# Altium footprint library PcbLib1.PcbLib: 10 footprints
Each footprint in its own frame and in the unit in brackets; x right, y up, seen from the top. Pads: shape width x height; smd on the part's side, far side on the other; paste and mask are expansions set on the pad; w line width, h text height; cw(c..) or ccw(c..) is an arc to the next point about the centre after c.
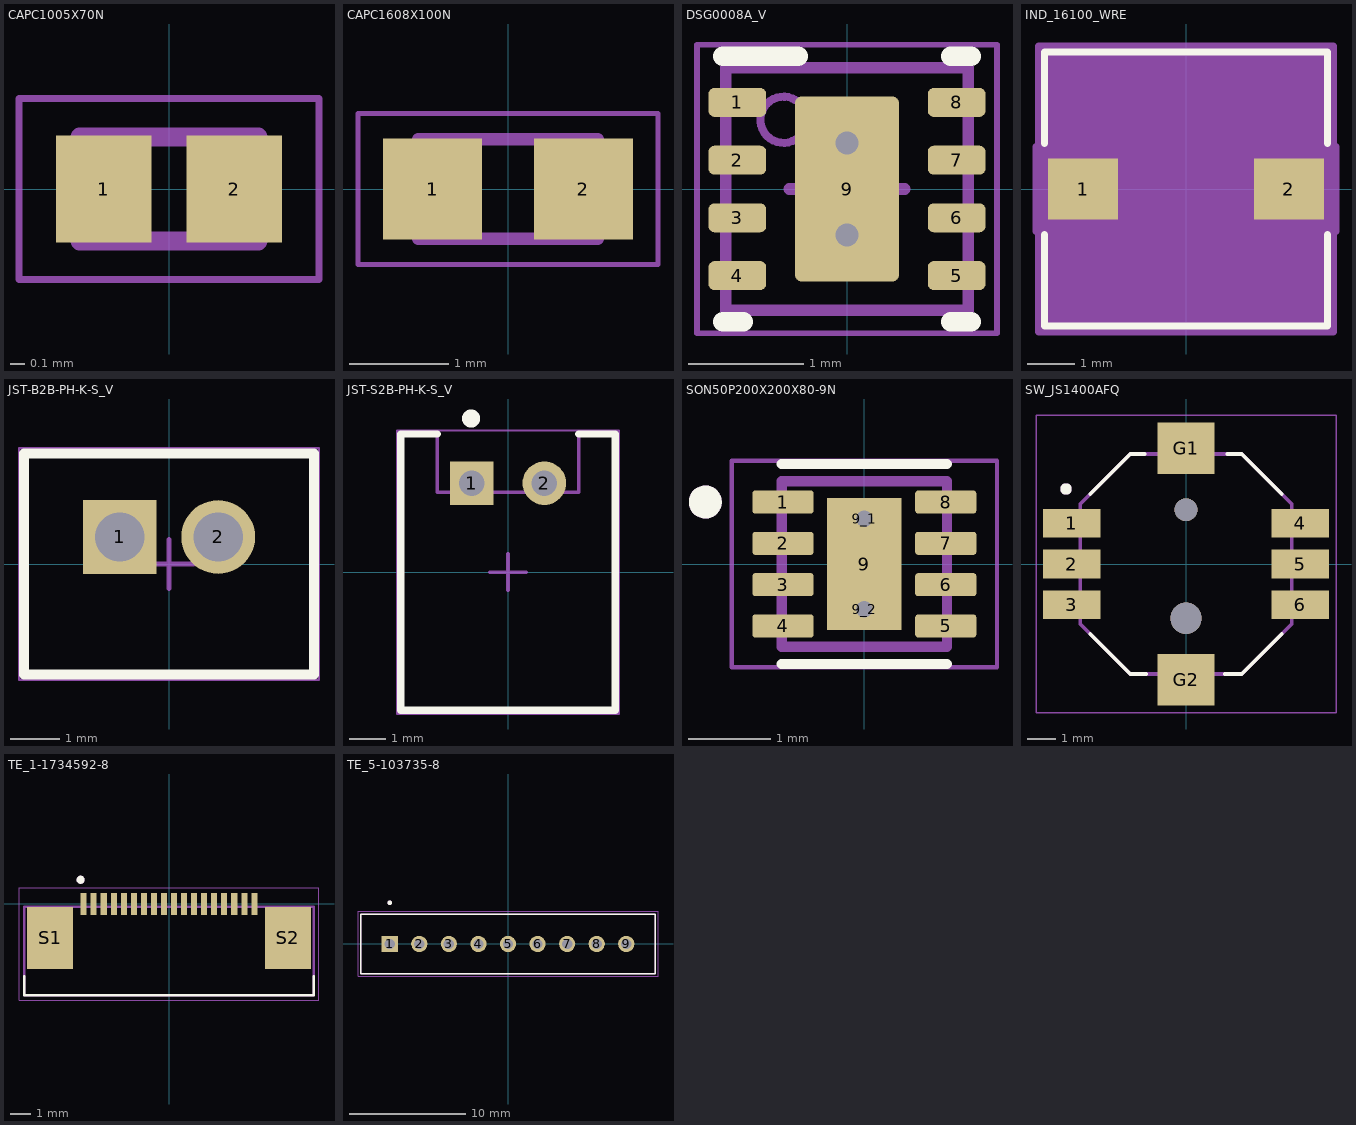
[diagram p0: the footprints below, top view; thin cyan lines are the x and y axes]

## CAPC1005X70N [mm]
pads (2):
  rect 0.64x0.72 smd: 1(-0.439,0) 2(0.439,0)
Mechanical 13:
  lines w0.127: -0.6,-0.35 0.6,-0.35 0.6,0.35 -0.6,0.35 -0.6,-0.35
Mechanical 15:
  lines w0.05: -1.008,-0.608 1.008,-0.608 1.008,0.608 -1.008,0.608 -1.008,-0.608
3D body "step_temp.STEP": height 0.7, standoff 0, extent -0.5,-0.25 0.5,0.25

## CAPC1608X100N [mm]
pads (2):
  rect 1x1.02 smd: 1(-0.759,0) 2(0.759,0)
Mechanical 13:
  lines w0.127: -0.9,-0.5 0.9,-0.5 0.9,0.5 -0.9,0.5 -0.9,-0.5
Mechanical 15:
  lines w0.05: -1.508,-0.758 1.508,-0.758 1.508,0.758 -1.508,0.758 -1.508,-0.758

## DSG0008A_V [mm] "SON, 8-Leads, Body 2x2mm, Pitch 0.5mm, Thermal Pad 1.6x0.9mm, TI Recommended"
height 0.8
pads (9):
  rrect40% 0.5x0.25 smd: 1(-0.95,0.75) 2(-0.95,0.25) 3(-0.95,-0.25) 4(-0.95,-0.75) 5(0.95,-0.75) 6(0.95,-0.25) 7(0.95,0.25) 8(0.95,0.75)
  rrect11% 0.9x1.6 smd paste-0.45: 9(0,0)
via 0,0.4 diameter 0.5 hole 0.2
via 0,-0.4 diameter 0.5 hole 0.2
Top Overlay:
  lines w0.17: -1.075,-1.15 -0.9,-1.15 ; -1.075,1.15 -0.425,1.15 ; 0.9,-1.15 1.075,-1.15 ; 0.9,1.15 1.075,1.15
Top Paste:
  rectangle: -0.427,-0.733 0.427,0.733
Mechanical 1:
  text ".Designator" at -0.925,-0.25 h0.51
Mechanical 13:
  circle w0.07: c-0.55,0.6 r0.2
  lines w0.1: -1.05,-1.05 -1.05,1.05 1.05,1.05 1.05,-1.05 -1.05,-1.05
Mechanical 15:
  lines w0.05: -1.3,-1.25 1.3,-1.25 1.3,1.25 -1.3,1.25 -1.3,-1.25
  lines w0.1: -0.5,0 0.5,0 ; 0,-0.5 0,0.5
3D body: height 0.8, standoff 0, extent -1.05,-1.05 1.05,1.05
3D body: height 0.8, standoff 0.5, extent -0.749,0.401 -0.351,0.799

## IND_16100_WRE [mil]
pads (2):
  rect 59x51 smd paste+0 mask+0: 1(-86.5,0) 2(86.5,0)
Top Overlay:
  lines w6: -119,-38.25 -119,-115 119,-115 119,-38.25 ; -119,38.25 -119,115 119,115 119,38.25
Mechanical 13:
  lines w1: -114,-110 114,-110 114,110 -114,110 -114,-110
Mechanical 15:
  region: -124,-35.5 -126,-35.5 -126,35.5 -124,35.5 -124,120 124,120 124,35.5 126,35.5 126,-35.5 124,-35.5 124,-120 -124,-120
  lines w6: -126,-35.5 -126,35.5 -124,35.5 -124,120 124,120 124,35.5 126,35.5 126,-35.5 124,-35.5 124,-120 -124,-120 -124,-35.5 -126,-35.5
3D body "IND_16100_WRE.step": height 169.09, standoff -0.12, extent -114.02,-110.12 114.02,110.12

## JST-B2B-PH-K-S_V [mm] "Connector, 2-Leads, Body 5.9x4.5mm, Pitch 2mm"
height 6
pads (2):
  rect 1.5x1.5 hole 1: 1(-1,0.55)
  round 1.5 hole 1: 2(1,0.55)
Top Overlay:
  lines w0.2: -2.95,-2.25 -2.95,2.25 2.95,2.25 2.95,-2.25 -2.95,-2.25
Mechanical 13:
  lines w0.1: -2.95,-2.25 2.95,-2.25 2.95,2.25 -2.95,2.25 -2.95,-2.25
Mechanical 15:
  lines w0.05: -3.05,-2.35 3.05,-2.35 3.05,2.35 -3.05,2.35 -3.05,-2.35
  lines w0.1: -0.5,0 0.5,0 ; 0,-0.5 0,0.5
3D body: height 0, standoff -3.4, extent 0.75,0.301 1.249,0.8
3D body: height 0, standoff -3.4, extent -1.249,0.301 -0.751,0.799
3D body: height 6, standoff 0, extent -2.949,-2.249 2.949,2.249

## JST-S2B-PH-K-S_V [mm] "THD, 2-Leads, Body 7.6x5.9mm, Pitch 2mm"
height 4.8
pads (2):
  rect 1.2x1.2 hole 0.7: 1(-1,2.45)
  round 1.2 hole 0.7: 2(1,2.45)
Top Overlay:
  circle w0.25: c-1.016,4.228 r0.125
  lines w0.2: -1.95,3.8 -2.95,3.8 -2.95,-3.8 2.95,-3.8 2.95,3.8 1.95,3.8
Mechanical 13:
  lines w0.1: -2.95,-3.8 -2.95,3.8 -1.95,3.8 -1.95,3.8 -1.95,2.2 1.95,2.2 1.95,3.8 2.95,3.8 2.95,-3.8 -2.95,-3.8
Mechanical 15:
  lines w0.05: -3.05,-3.9 3.05,-3.9 3.05,3.9 -3.05,3.9 -3.05,-3.9
  lines w0.1: -0.5,0 0.5,0 ; 0,-0.5 0,0.5
3D body "S2B-PH-K-S.STEP": height 4.8, standoff -3.4, extent -2.95,-3.8 2.95,3.8

## SON50P200X200X80-9N [mm]
pads (11):
  rrect25% 0.74x0.28 smd: 1(-0.985,0.75) 2(-0.985,0.25) 3(-0.985,-0.25) 4(-0.985,-0.75) 5(0.985,-0.75) 6(0.985,-0.25) 7(0.985,0.25) 8(0.985,0.75)
  rect 0.9x1.6 smd paste-2: 9(0,0)
  round 0.4 hole 0.2 mask+0: 9_1(0,0.55) 9_2(0,-0.55)
Top Overlay:
  circle w0.2: c-1.925,0.75 r0.1
  lines w0.127: -1,-1.21 1,-1.21 ; -1,1.21 1,1.21
Top Paste:
  region: 0.28,-0.51 -0.28,-0.51 -0.28,0.51 0.28,0.51
Mechanical 13:
  circle w0.2: c-1.925,0.75 r0.1
  lines w0.127: -1,-1 -1,1 1,1 1,-1 -1,-1
Mechanical 15:
  lines w0.05: -1.605,-1.25 -1.605,1.25 1.605,1.25 1.605,-1.25 -1.605,-1.25
3D body "step_temp.STEP": height 0.8, standoff 0, extent -1,-1 1,1

## SW_JS1400AFQ [mm]
height 4.8
pads (10):
  rect 2x1 smd: 1(-4,1.425) 2(-4,0) 3(-4,-1.425) 4(4,1.425) 5(4,0) 6(4,-1.425)
  rect 2x1.8 smd: G1(0,4.05) G2(0,-4.05)
  round 1.1 hole 1.1 unplated: ""(0,-1.9)
  round 0.8 hole 0.8 unplated: ""(0,1.9)
Top Overlay:
  circle w0.2: c-4.2,2.625 r0.1
  lines w0.127: -3.35,-2.45 -1.95,-3.85 -1.4,-3.85 ; -3.35,2.45 -1.95,3.85 -1.45,3.85 ; 1.35,-3.85 1.95,-3.85 3.35,-2.45 ; 1.45,3.85 1.95,3.85 3.35,2.45
Mechanical 13:
  circle w0.2: c-4.2,2.625 r0.1
  lines w0.127: -3.7,-2.1 -3.7,2.1 -1.95,3.85 1.95,3.85 3.7,2.1 3.7,-2.1 1.95,-3.85 -1.95,-3.85 -3.7,-2.1
Mechanical 15:
  lines w0.05: -5.25,-5.2 5.25,-5.2 5.25,5.2 -5.25,5.2 -5.25,-5.2

## TE_1-1734592-8 [mm]
pads (20):
  rect 0.3x1.1 smd: 1(-4.25,0) 2(-3.75,0) 3(-3.25,0) 4(-2.75,0) 5(-2.25,0) 6(-1.75,0) 7(-1.25,0) 8(-0.75,0) 9(-0.25,0) 10(0.25,0) 11(0.75,0) 12(1.25,0) 13(1.75,0) 14(2.25,0) 15(2.75,0) 16(3.25,0) 17(3.75,0) 18(4.25,0)
  rect 2.3x3.1 smd: S1(-5.92,-1.7) S2(5.92,-1.7)
Top Overlay:
  circle w0.2: c-4.4,1.2 r0.1
  lines w0.127: -7.215,-3.6 -7.215,-4.55 7.215,-4.55 7.215,-3.6
Mechanical 13:
  circle w0.2: c-4.4,1.2 r0.1
  lines w0.127: -7.215,-4.55 7.215,-4.55 7.215,-0.15 -7.215,-0.15 -7.215,-4.55
Mechanical 15:
  lines w0.05: -7.465,-4.8 7.465,-4.8 7.465,0.8 -7.465,0.8 -7.465,-4.8

## TE_5-103735-8 [mm]
pads (9):
  rect 1.398x1.398 hole 0.89: 1(-10.16,0)
  round 1.398 hole 0.89: 2(-7.62,0) 3(-5.08,0) 4(-2.54,0) 5(0,0) 6(2.54,0) 7(5.08,0) 8(7.62,0) 9(10.16,0)
Top Overlay:
  circle w0.2: c-10.16,3.54 r0.1
  lines w0.127: -12.635,-2.54 -12.635,2.54 12.635,2.54 12.635,-2.54 -12.635,-2.54
Mechanical 13:
  circle w0.2: c-10.16,3.54 r0.1
  lines w0.127: -12.635,-2.54 -12.635,2.54 12.635,2.54 12.635,-2.54 -12.635,-2.54
Mechanical 15:
  lines w0.05: -12.885,-2.79 -12.885,2.79 12.885,2.79 12.885,-2.79 -12.885,-2.79